# Altium schematic symbol library INDUCTOR - GENERIC.SchLib: 1 symbol
Pins are listed as number, name and electrical type; pins without a type are passive.

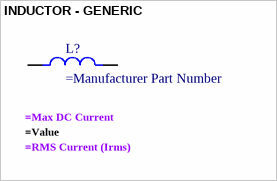
[diagram p0: symbol INDUCTOR - GENERIC]

## INDUCTOR - GENERIC
designator L?
.RMS Current (Irms): =RMS Current (Irms); .Value: =Value; .Max DC Current: =Max DC Current
pins: 1, 2